# EAGLE library part BA5208AF (library Audio-Power-amlifier)
3V-400mW BTL Power Audio Amplifier
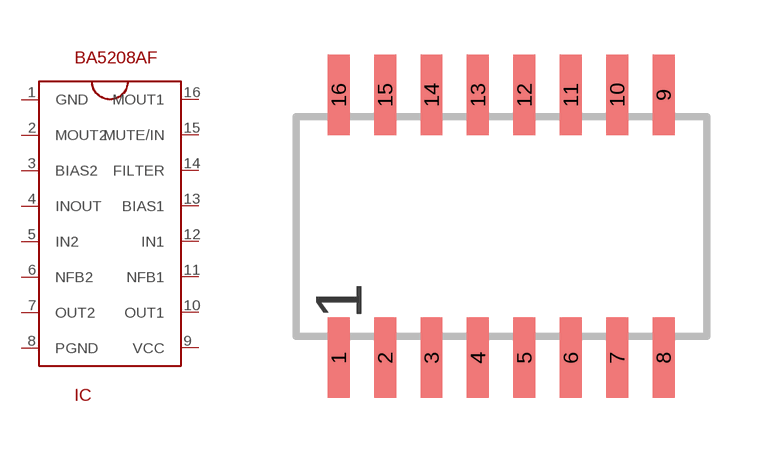
[diagram p39: symbol with the pads of SOP16; footprint SOP16]

Designator prefix IC

## BA5208AF  [SOP16]
1  GND  pwr
2  MOUT2  out
3  BIAS2
4  INOUT  out
5  IN2  in
6  NFB2
7  OUT2  out
8  PGND  pwr
9  VCC  pwr
10  OUT1  out
11  NFB1
12  IN1  in
13  BIAS1
14  FILTER
15  MUTE/IN  in
16  MOUT1  out

## Footprint SOP16 (pad centres in mm)
smd 0.6 x 2.2: 1 -4.445,-3.6; 2 -3.175,-3.6; 3 -1.905,-3.6; 4 -0.635,-3.6; 5 0.635,-3.6; 6 1.905,-3.6; 7 3.175,-3.6; 8 4.445,-3.6; 9 4.445,3.6; 10 3.175,3.6; 11 1.905,3.6; 12 0.635,3.6; 13 -0.635,3.6; 14 -1.905,3.6; 15 -3.175,3.6; 16 -4.445,3.6